# EAGLE library part PTA-08 (library con-phoenix-500)
RECEPTACAL
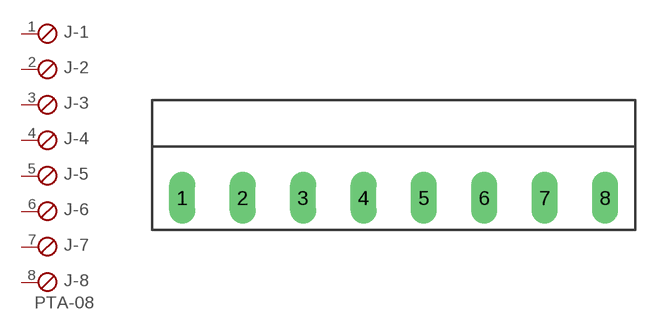
[diagram p7: symbol with the pads of PTA-08; footprint PTA-08]

Designator prefix J; gates -1=SKB -2=SKB -3=SKB -4=SKB -5=SKB -6=SKB -7=SKB -8=SKBV

## PTA-08  [PTA-08]
1  -1:1  pas
2  -2:1  pas
3  -3:1  pas
4  -4:1  pas
5  -5:1  pas
6  -6:1  pas
7  -7:1  pas
8  -8:1  pas

## Footprint PTA-08 (pad centres in mm)
RECEPTACAL
drill 1.422 long: 1 -17.5,0; 2 -12.5,0; 3 -7.5,0; 4 -2.5,0; 5 2.5,0; 6 7.5,0; 7 12.5,0; 8 17.5,0